# Altium schematic symbol library X-Connectors.SCHLIB: 36 symbols
Pins are listed as number, name and electrical type; pins without a type are passive.

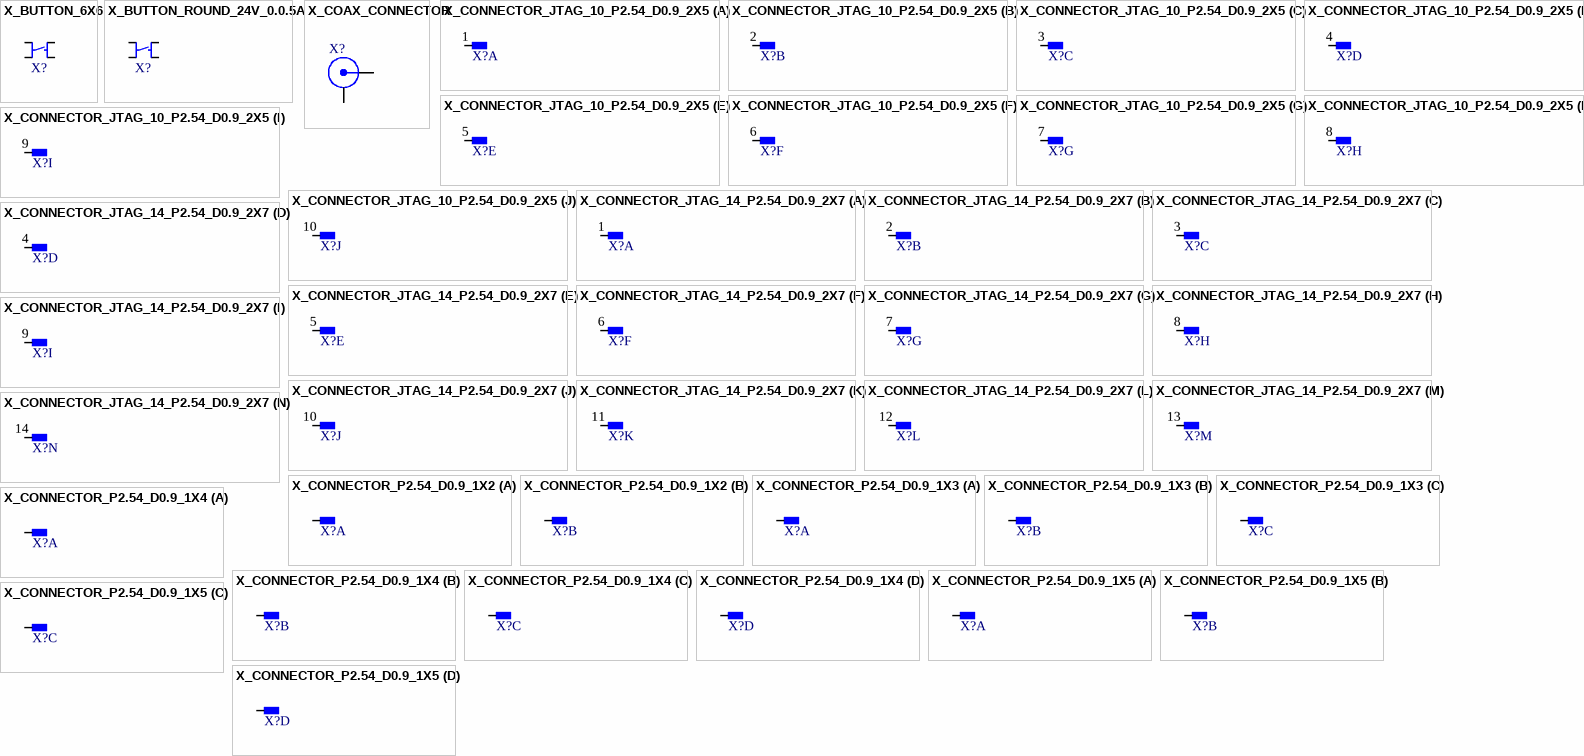
[diagram p0: symbols X_BUTTON_6X6 to X_CONNECTOR_P2.54_D0.9_1X5]

## X_BUTTON_6X6
designator X?  (value not drawn)
6x6mm, Side-operatoed, High-force, and Gold-plated; Supplier - Farnell: 1960939
footprint THT_CON_BUTTON_6X6
pins: 1, 2, 3, 4

## X_BUTTON_ROUND_24V_0.0.5A
designator X?  (value not drawn)
SWITCH TACTILE SPST-NO 0.05A 24V; Supplier - Digikey: JF15CP2C-ND
footprint THT_CON_JF15CP2C
pins: 1, 2, 3, 4

## X_COAX_CONNECTOR
designator X?, comment Coaxial connector  (value not drawn)
Manufacturer: Generic Components; Class II: RF Coaxial; Revision: July-2002: Re-released for DXP Platform.; Publisher: Altium Limited; Class I: Connector
signal-integrity model Connector
footprint THT_CON_SMB_TH_90G
footprint SMA_EDGE_11mm
pins: 1 C, 2 S, 3 S, 4 S, 5 S

## X_CONNECTOR_JTAG_10_P2.54_D0.9_2X5
designator X?  (value not drawn)
10-pin JTAG Pitch 2.54, Diameter 0.9mm, 2 row, 5 columns; Type: Pitch 2.54, Diameter 0.9mm, 2 row, 5 columns
footprint THT_JTAG_HDR2X5RC
part A pins: 1
part B pins: 2
part C pins: 3
part D pins: 4
part E pins: 5
part F pins: 6
part G pins: 7
part H pins: 8
part I pins: 9
part J pins: 10

## X_CONNECTOR_JTAG_14_P2.54_D0.9_2X7
designator X?  (value not drawn)
14-pin JTAG Pitch 2.54, Diameter 0.9mm, 2 row, 7 columns; Type: Pitch 2.54, Diameter 0.9mm, 2 row, 7 columns
footprint THT_CON_JTAG_P2.54_D0.9_2X7
part A pins: 1
part B pins: 2
part C pins: 3
part D pins: 4
part E pins: 5
part F pins: 6
part G pins: 7
part H pins: 8
part I pins: 9
part J pins: 10
part K pins: 11
part L pins: 12
part M pins: 13
part N pins: 14

## X_CONNECTOR_P2.54_D0.9_1X2
designator X?  (value not drawn)
Pitch 2.54, Diameter 0.9mm, 1 row, 2 columns; Type: Pitch 2.54, Diameter 0.9mm, 1 row, 2 columns
footprint THT_CON_P2.54_D0.9_1X2
part A pins: 1
part B pins: 2

## X_CONNECTOR_P2.54_D0.9_1X3
designator X?  (value not drawn)
Pitch 2.54, Diameter 0.9mm, 1 row, 3 columns; Type: Pitch 2.54, Diameter 0.9mm, 1 row, 3 columns
footprint THT_CON_P2.54_D0.9_1X3
part A pins: 1
part B pins: 2
part C pins: 3

## X_CONNECTOR_P2.54_D0.9_1X4
designator X?  (value not drawn)
Pitch 2.54, Diameter 0.9mm, 1 row, 4 columns; Type: Pitch 2.54, Diameter 0.9mm, 1 row, 3 columns
footprint THT_CON_P2.54_D0.9_1X4
part A pins: 1
part B pins: 2
part C pins: 3
part D pins: 4

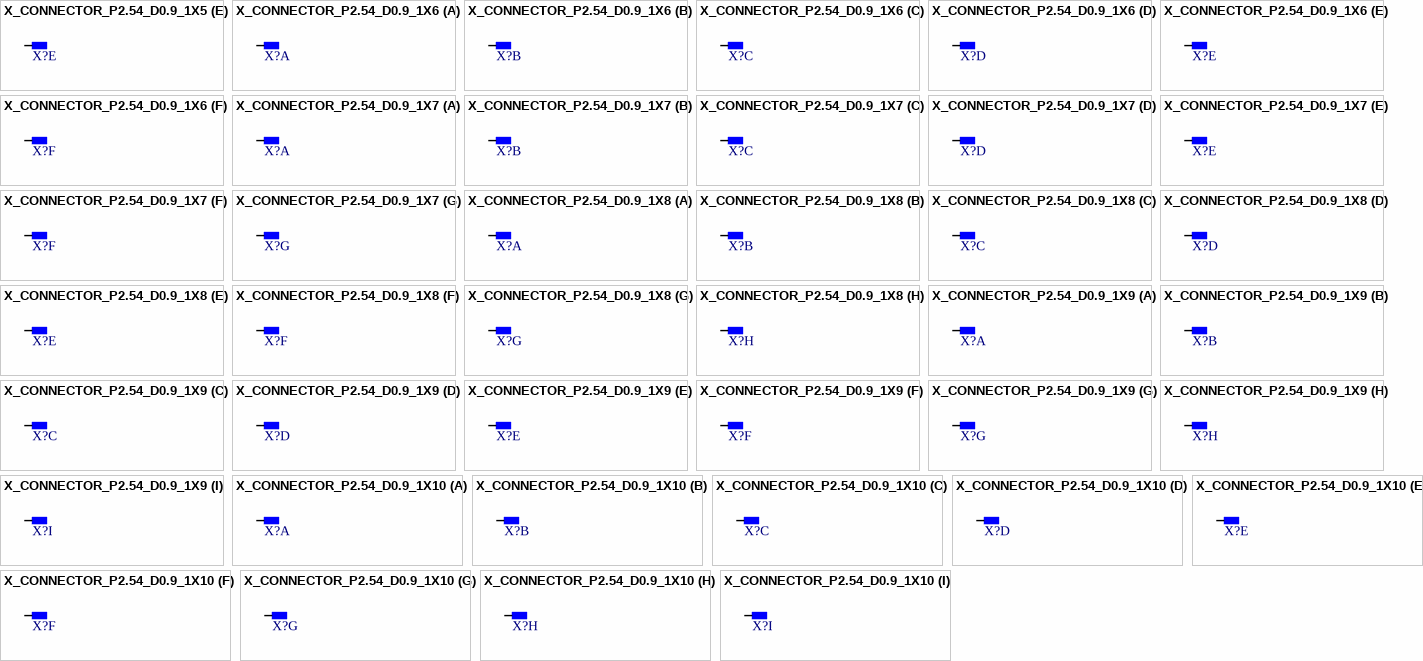
[diagram p1: symbols X_CONNECTOR_P2.54_D0.9_1X5 to X_CONNECTOR_P2.54_D0.9_1X10]

## X_CONNECTOR_P2.54_D0.9_1X5
designator X?  (value not drawn)
Pitch 2.54, Diameter 0.9mm, 1 row, 5 columns; Type: Pitch 2.54, Diameter 0.9mm, 1 row, 3 columns
footprint THT_CON_P2.54_D0.9_1X5
part A pins: 1
part B pins: 2
part C pins: 3
part D pins: 4
part E pins: 5

## X_CONNECTOR_P2.54_D0.9_1X6
designator X?  (value not drawn)
Pitch 2.54, Diameter 0.9mm, 1 row, 6 columns; Type: Pitch 2.54, Diameter 0.9mm, 1 row, 3 columns
footprint THT_CON_P2.54_D0.9_1X6
part A pins: 1
part B pins: 2
part C pins: 3
part D pins: 4
part E pins: 5
part F pins: 6

## X_CONNECTOR_P2.54_D0.9_1X7
designator X?  (value not drawn)
Pitch 2.54, Diameter 0.9mm, 1 row, 7 columns; Type: Pitch 2.54, Diameter 0.9mm, 1 row, 3 columns
footprint THT_CON_P2.54_D0.9_1X7
part A pins: 1
part B pins: 2
part C pins: 3
part D pins: 4
part E pins: 5
part F pins: 6
part G pins: 7

## X_CONNECTOR_P2.54_D0.9_1X8
designator X?  (value not drawn)
Pitch 2.54, Diameter 0.9mm, 1 row, 8 columns; Type: Pitch 2.54, Diameter 0.9mm, 1 row, 3 columns
footprint THT_CON_P2.54_D0.9_1X8
part A pins: 1
part B pins: 2
part C pins: 3
part D pins: 4
part E pins: 5
part F pins: 6
part G pins: 7
part H pins: 8

## X_CONNECTOR_P2.54_D0.9_1X9
designator X?  (value not drawn)
Pitch 2.54, Diameter 0.9mm, 1 row, 9 columns; Type: Pitch 2.54, Diameter 0.9mm, 1 row, 3 columns
footprint THT_CON_P2.54_D0.9_1X9
part A pins: 1
part B pins: 2
part C pins: 3
part D pins: 4
part E pins: 5
part F pins: 6
part G pins: 7
part H pins: 8
part I pins: 9

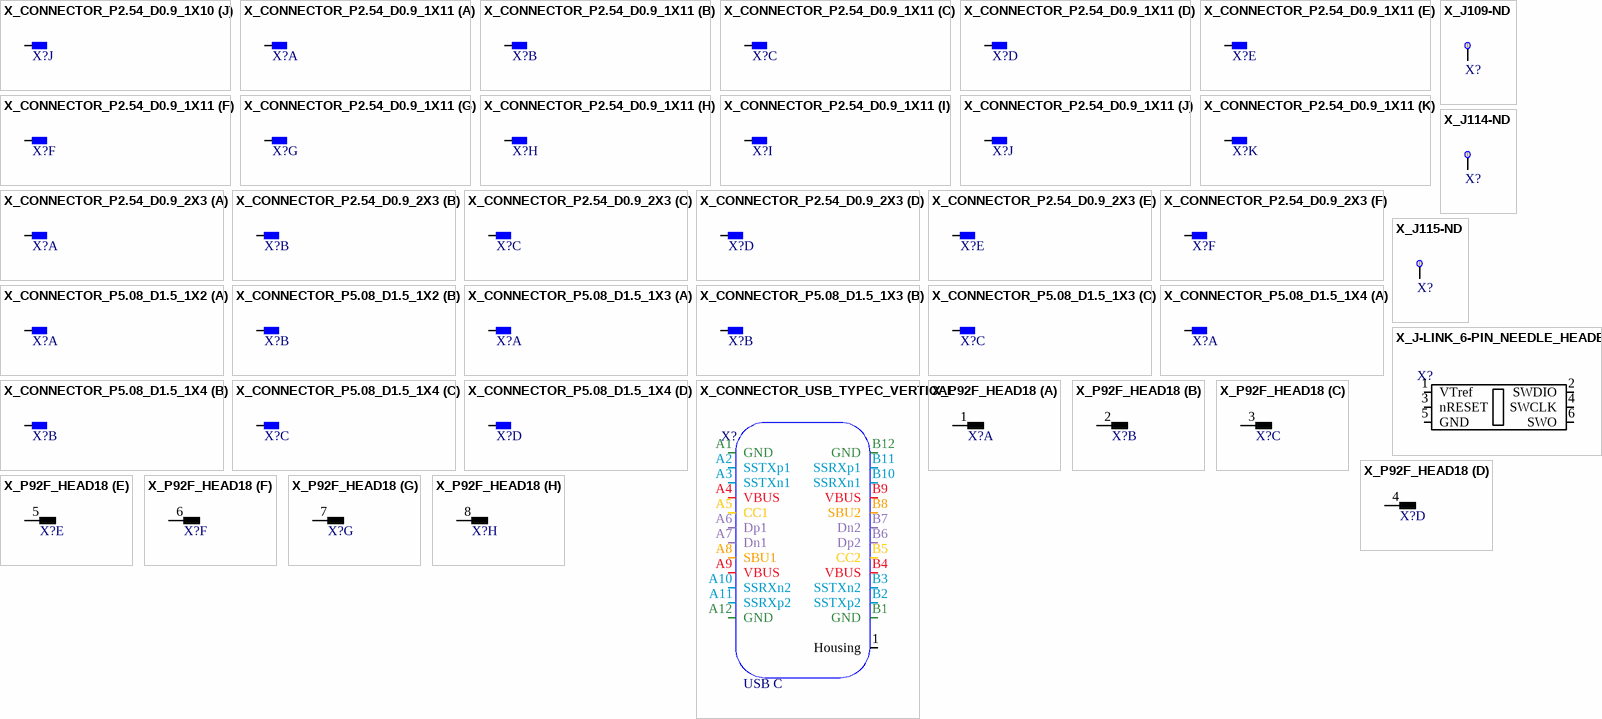
[diagram p2: symbols X_CONNECTOR_P2.54_D0.9_1X10 to X_P92F_HEAD18]

## X_CONNECTOR_P2.54_D0.9_1X10
designator X?  (value not drawn)
Pitch 2.54, Diameter 0.9mm, 1 row, 10 columns; Type: Pitch 2.54, Diameter 0.9mm, 1 row, 3 columns
footprint THT_CON_P2.54_D0.9_1X10
part A pins: 1
part B pins: 2
part C pins: 3
part D pins: 4
part E pins: 5
part F pins: 6
part G pins: 7
part H pins: 8
part I pins: 9
part J pins: 10

## X_CONNECTOR_P2.54_D0.9_1X11
designator X?  (value not drawn)
Pitch 2.54, Diameter 0.9mm, 1 row, 11 columns; Type: Pitch 2.54, Diameter 0.9mm, 1 row, 3 columns
footprint THT_CON_P2.54_D0.9_1X11
part A pins: 1
part B pins: 2
part C pins: 3
part D pins: 4
part E pins: 5
part F pins: 6
part G pins: 7
part H pins: 8
part I pins: 9
part J pins: 10
part K pins: 11

## X_CONNECTOR_P2.54_D0.9_2X3
designator X?  (value not drawn)
Pitch 2.54, Diameter 0.9mm, 2 row, 3 columns; Type: Pitch 2.54, Diameter 0.9mm, 2 row, 3 columns
footprint THT_CON_P2.54_D0.9_2X3
part A pins: 1
part B pins: 2
part C pins: 3
part D pins: 4
part E pins: 5
part F pins: 6

## X_CONNECTOR_P5.08_D1.5_1X2
designator X?  (value not drawn)
Pitch 5.08, Diameter 1.5mm, 1 row, 2 columns; Type: Pitch 2.54, Diameter 0.9mm, 1 row, 2 columns
footprint THT_CON_P5.08_D1.5_1X2
part A pins: 1
part B pins: 2

## X_CONNECTOR_P5.08_D1.5_1X3
designator X?  (value not drawn)
Pitch 5.08, Diameter 1.5mm, 1 row, 3 columns; Type: Pitch 5.08, Diameter 1.5mm, 1 row, 3 columns
footprint THT_CON_P5.08_D1.5_1X3
part A pins: 1
part B pins: 2
part C pins: 3

## X_CONNECTOR_P5.08_D1.5_1X4
designator X?  (value not drawn)
footprint THT_CON_P5.08_D1.5_1X4
part A pins: 1
part B pins: 2
part C pins: 3
part D pins: 4

## X_CONNECTOR_USB_TYPEC_VERTICAL
designator X?  Type: USB C  (hidden comment: *)
USB - C (Type - C) USB 3.1 (USB 3.1 Gen 2, Superspeed+) Receptacle Connector 24 Position Surface Mount, Through Hole; Supplier - Digikey: 609-5380-1-ND
footprint SMD_CON_USB_TYPEC_VERTICAL_10132328-10011LF (USB - C (Type - C) USB 3.1 (USB 3.1 Gen 2, Superspeed+) Receptacle Connector 24 Position Surface Mount, Through Hole)
pins: 1 Housing, A1 GND, A2 SSTXp1, A3 SSTXn1, A4 VBUS, A5 CC1, A6 Dp1, A7 Dn1, A8 SBU1, A9 VBUS, A10 SSRXn2, A11 SSRXp2, A12 GND, B1 GND, B2 SSTXp2, B3 SSTXn2, B4 VBUS, B5 CC2, B6 Dp2, B7 Dn2, B8 SBU2, B9 VBUS, B10 SSRXn1, B11 SSRXp1, B12 GND

## X_J109-ND
designator X?, comment J109-ND  (value not drawn)
Horizontal Test Jack Insulated red; Supplier - Digikey: J109-ND
footprint THT_CON_J109-ND
pins: 1 TP

## X_J114-ND
designator X?, comment J114-ND  (value not drawn)
Horizontal Test Jack Insulated black; Supplier - Digikey: J114-ND
footprint THT_CON_J114-ND
pins: 1 TP

## X_J115-ND
designator X?  (value not drawn)
Horizontal Test Jack Insulated blue; Supplier - Digikey: J115-ND
footprint THT_CON_J109-ND
pins: 1 TP

## X_J-LINK_6-PIN_NEEDLE_HEADER
designator X?  (value not drawn)
J-Link 6-pin Needle Adapter (8.06.16); Supplier - Segger: 8.06.16
footprint SMD_J-LINK_6-PIN_NEEDLE
pins: 1 VTref, 2 SWDIO, 3 nRESET, 4 SWCLK, 5 GND, 6 SWO

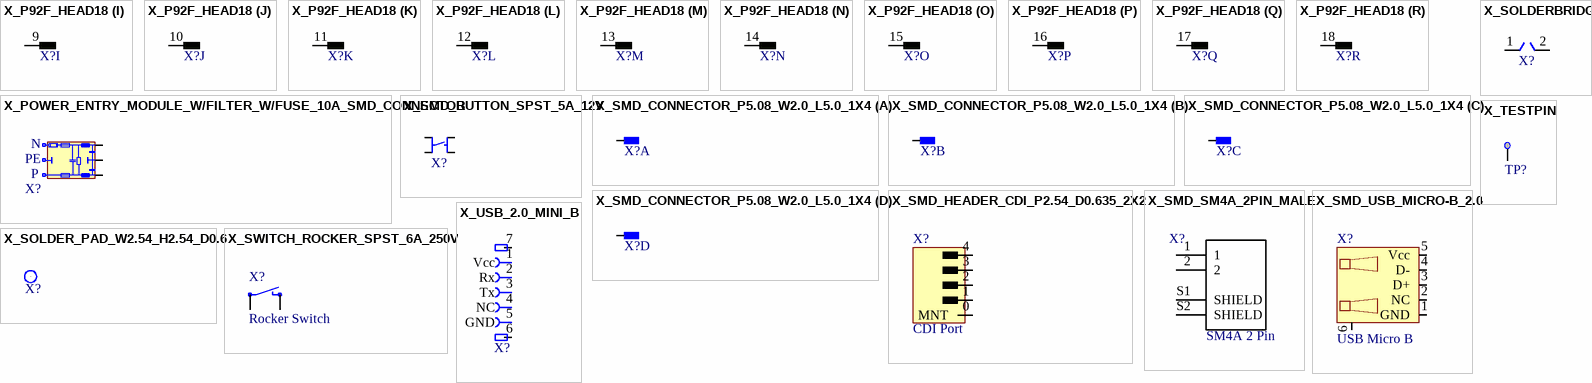
[diagram p3: symbols X_P92F_HEAD18 to X_USB_2.0_MINI_B]

## X_P92F_HEAD18
designator X?  (value not drawn)
P92F 18-pin THT header
footprint THT_CON_P92F
part A pins: 1
part B pins: 2
part C pins: 3
part D pins: 4
part E pins: 5
part F pins: 6
part G pins: 7
part H pins: 8
part I pins: 9
part J pins: 10
part K pins: 11
part L pins: 12
part M pins: 13
part N pins: 14
part O pins: 15
part P pins: 16
part Q pins: 17
part R pins: 18

## X_POWER_ENTRY_MODULE_W/FILTER_W/FUSE_10A_SMD_CONNECTOR
designator X?  (value not drawn)
MOD POWER ENTRY INLET WITH FUSE 10A; Supplier - Digikey: 817-1489-ND
footprint SMD_CON_P5.08_W2.0_L5.0_1X3
pins: 1, 2, 3
text: N; PE; P

## X_SMD_BUTTON_SPST_5A_12V
designator X?  (value not drawn)
Supplier - Digikey: CKN10416-ND
footprint SMD_BUTTON_PWR70Q2S
pins: 1, 2, 3, 4

## X_SMD_CONNECTOR_P5.08_W2.0_L5.0_1X4
designator X?  (value not drawn)
footprint SMD_CON_P5.08_W2.0_L5.0_1X4
part A pins: 1
part B pins: 2
part C pins: 3
part D pins: 4

## X_SMD_HEADER_CDI_P2.54_D0.635_2X2
designator X?  Type: CDI Port  (hidden comment: X_SMD_HEADER_CDI_P2.54_D0.635_2X2)
Supplier - E+H Flowtec AG: 50108598
footprint SMD_HEADER_P2.54_D0.635_2X2
pins: 0 MNT, 1, 2, 3, 4

## X_SMD_SM4A_2PIN_MALE
designator X?  Type: SM4A 2 Pin  (hidden comment: *)
Connector Header Surface Mount, Right Angle 2 position 0.059" (1.50mm); Supplier - Digikey: 455-1693-1-ND
footprint SMD_CON_SM4A_2PIN_MALE (Connector Header Surface Mount, Right Angle 2 position 0.059" (1.50mm))
pins: 1, 2, S1 SHIELD, S2 SHIELD

## X_SMD_USB_MICRO-B_2.0
designator X?  Type: USB Micro B  (hidden comment: X_SMD_USB_MICRO-B_2.0)
Supplier - Digikey: 609-4618-1-ND
footprint SMD_USB_MICRO_B_2.0
pins: 1 GND, 2 NC, 3 D+, 4 D-, 5 Vcc, 6 Shield

## X_SOLDER_PAD_W2.54_H2.54_D0.6
designator X?  (value not drawn)
Placed 2.54 apart, hole size 0.6mm, Designed for soldering/desoldering components frequently for testing purposes
footprint THT_CON_SOLDER_PAD (Designed for soldering/desoldering components frequently for testing purposes)
pins: 1

## X_SOLDERBRIDGE
designator X?, comment Solder Bridge  (value not drawn)
footprint SMD_CON_SOLDERBRIDGE (Solder Bridge)
pins: 1 NC, 2 NC

## X_SWITCH_ROCKER_SPST_6A_250VAC
designator X?  Type: Rocker Switch  (hidden comment: X_SWITCH_ROCKER_SPST_6A_250VAC)
Supplier - Digikey: 360-1721-ND
footprint THT_CON_P5.08_D1.5_1X2
pins: 1, 2

## X_TESTPIN
designator TP?, comment Test Pin  (value not drawn)
footprint THT_TESTPIN_0_9 (Testpin 0.9mm)
footprint THT_TESTPIN_1_2 (Testpin 1.2mm)
footprint SMD_TESTPOINT_0_5
footprint THT_TESTPIN_0_3
footprint SMD_TESTPAD_0_6
footprint SMD_TESTPAD_0_9
pins: 1 TP

## X_USB_2.0_MINI_B
designator X?  (value not drawn)
USB 2.0 Mini B; Supplier - Digikey: H2961TR-ND
footprint SMD_UX60A-MB-5ST (USB 2.0 Mini B)
pins: 1 Vcc, 2 Rx, 3 Tx, 4 NC, 5 GND, 6, 7